# Altium schematic symbol library MICREL.SchLib: 1 symbol
Pins are listed as number, name and electrical type; pins without a type are passive.

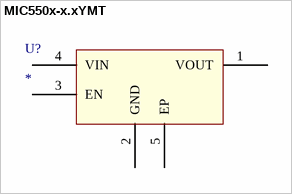
[diagram p0: symbol MIC550x-x.xYMT]

## MIC550x-x.xYMT
designator U?
Single 300mA LDO
footprint DFN4P65S100x100EP48x48 (DFN, 4-Leads, Body 1.00x1.00mm, Pitch 0.65mm, Thermal Pad 0.48x0.48mm, IPC Medium Density)
pins: 1 VOUT (power), 2 GND (power), 3 EN (power), 4 VIN (power), 5 EP (power)